# EAGLE library part 1X9 (library con-amp-micro-mate-n-lock)
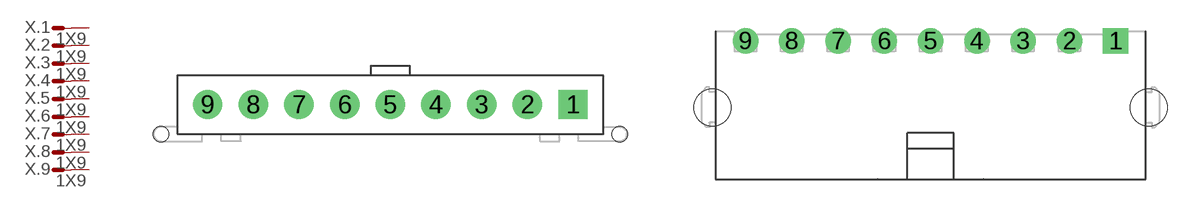
[diagram p4: symbol with the pads of 2-1445050-9; footprints 2-1445050-9, 2-1445054-9]

Designator prefix X; gates .1=M .2=M .3=M .4=M .5=M .6=M .7=M .8=M .9=M

## 1X9-A  [2-1445050-9]
1  .1:S  pas
2  .2:S  pas
3  .3:S  pas
4  .4:S  pas
5  .5:S  pas
6  .6:S  pas
7  .7:S  pas
8  .8:S  pas
9  .9:S  pas

## 1X9-B  [2-1445054-9]
Pads as for 2-1445050-9

## 1X9-C  [2-1445055-9]
Pads as for 2-1445050-9

## Footprint 2-1445050-9 (pad centres in mm)
drill 1.1 pad 1.93 square: 1 0,0
drill 1.1 pad 1.93 round: 2 -3,0; 3 -6,0; 4 -9,0; 5 -12,0; 6 -15,0; 7 -18,0; 8 -21,0; 9 -24,0
hole 1 at -27.07,-1.96
hole 1 at 3.07,-1.96

## Footprint 2-1445054-9 (pad centres in mm)
drill 1.1 square: 1 0,0
drill 1.1 round: 2 -3,0; 3 -6,0; 4 -9,0; 5 -12,0; 6 -15,0; 7 -18,0; 8 -21,0; 9 -24,0
hole 2.4 at 2.15,-4.32
hole 2.4 at -26.15,-4.32

## Footprint 2-1445055-9 (pad centres in mm)
drill 1.1 pad 1.93 square: 1 0,0
drill 1.1 pad 1.93 round: 2 -3,0; 3 -6,0; 4 -9,0; 5 -12,0; 6 -15,0; 7 -18,0; 8 -21,0; 9 -24,0
hole 3 at -2.15,-4.32
hole 3 at -21.85,-4.32